# Altium footprint library 15EDGRC-3.81.PcbLib: 11 footprints
Each footprint in its own frame and in the unit in brackets; x right, y up, seen from the top. Pads: shape width x height; smd on the part's side, far side on the other; paste and mask are expansions set on the pad; w line width, h text height; cw(c..) or ccw(c..) is an arc to the next point about the centre after c.
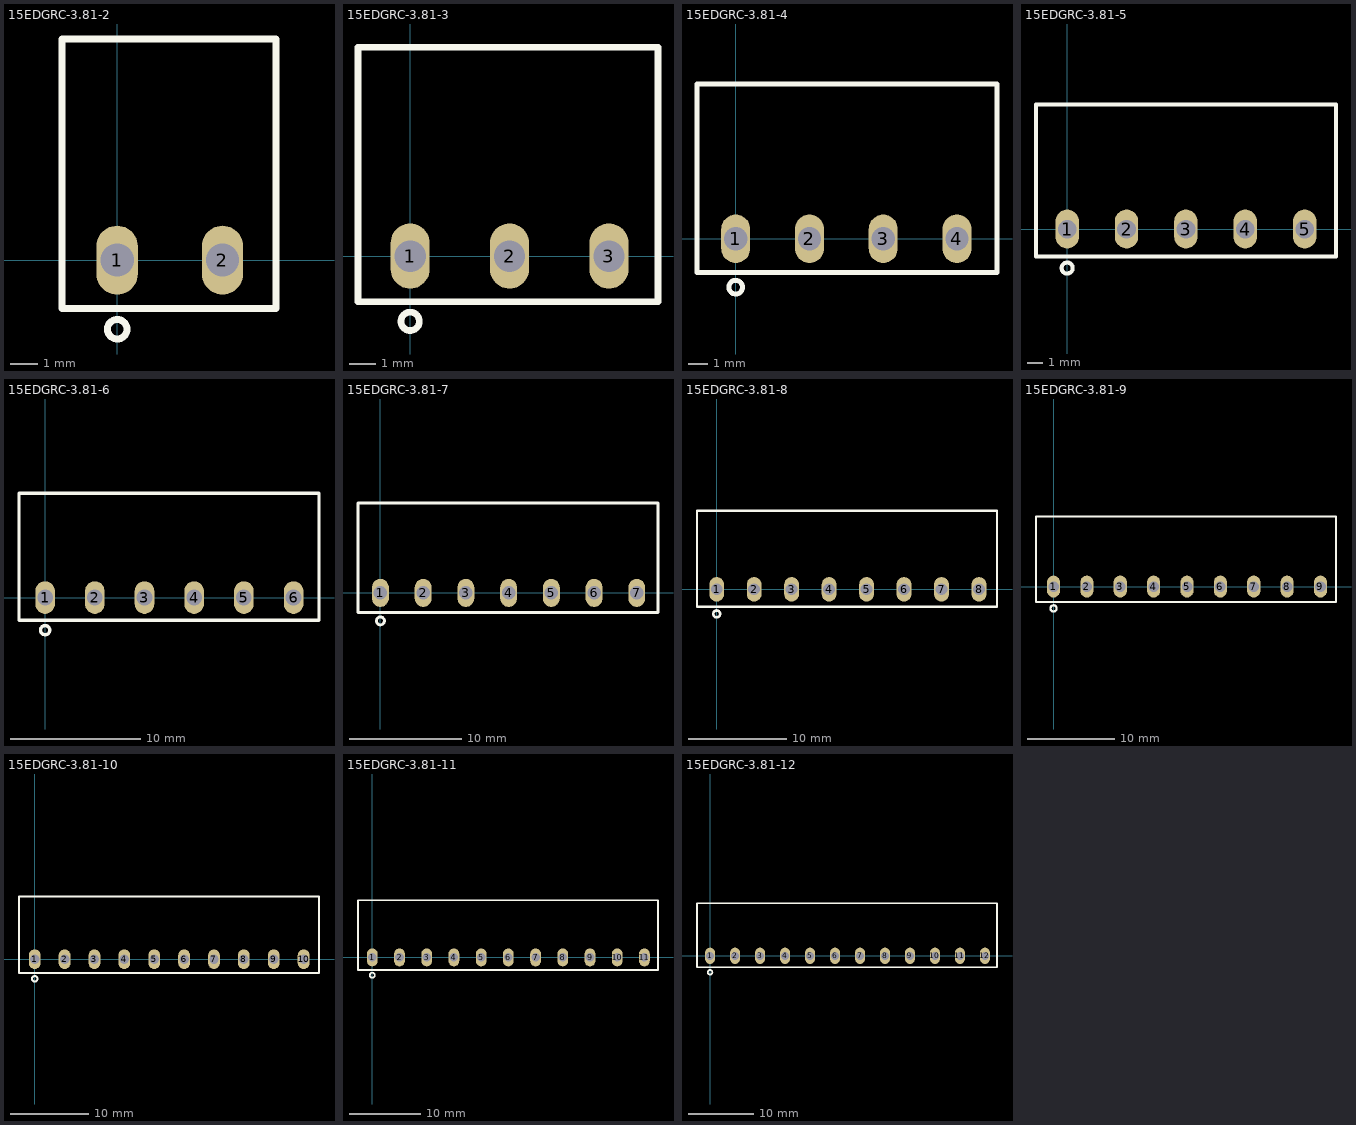
[diagram p0: the footprints below, top view; thin cyan lines are the x and y axes]

## 15EDGRC-3.81-2 [mm]
pads (2):
  oval 1.5x2.5 hole 1.2: 1(0,0) 2(3.81,0)
Top Overlay:
  circle w0.254: c0,-2.5 r0.354
  lines w0.254: -2,-1.75 -2,8 5.75,8 5.75,-1.75 -2,-1.75
3D body "2pin.stp": height 7.3, standoff -3.3, extent -1.91,-1.2 5.71,8

## 15EDGRC-3.81-3 [mm]
pads (3):
  oval 1.5x2.5 hole 1.2: 1(0,0) 2(3.81,0) 3(7.62,0)
Top Overlay:
  circle w0.254: c0,-2.5 r0.354
  lines w0.254: -2,-1.75 9.5,-1.75 9.5,8 -2,8 -2,-1.25 -2,-1.75
3D body "3pin.stp": height 7.3, standoff -3.3, extent -1.865,-1.2 9.565,8

## 15EDGRC-3.81-4 [mm]
pads (4):
  oval 1.5x2.5 hole 1.2: 1(0,0) 2(3.81,0) 3(7.62,0) 4(11.43,0)
Top Overlay:
  circle w0.254: c0,-2.5 r0.354
  lines w0.254: -2,-1.75 -2,8 13.5,8 13.5,-1.75 -2,-1.75
3D body "4pin.stp": height 7.3, standoff -3.3, extent -1.9,-1.2 13.34,8

## 15EDGRC-3.81-5 [mm]
pads (5):
  oval 1.5x2.5 hole 1.2: 1(0,0) 2(3.81,0) 3(7.62,0) 4(11.43,0) 5(15.24,0)
Top Overlay:
  circle w0.254: c0,-2.5 r0.354
  lines w0.254: -2,-1.75 17.25,-1.75 17.25,8 -2,8 -2,-1.25 -2,-1.75
3D body "5pin.stp": height 7.3, standoff -3.3, extent -1.9,-1.2 17.15,8

## 15EDGRC-3.81-6 [mm]
pads (6):
  oval 1.5x2.5 hole 1.2: 1(0,0) 2(3.81,0) 3(7.62,0) 4(11.43,0) 5(15.24,0) 6(19.05,0)
Top Overlay:
  circle w0.254: c0,-2.5 r0.354
  lines w0.254: -2,-1.75 -2,8 21,8 21,-1.75 -2,-1.75
3D body "6pin.stp": height 7.3, standoff -3.3, extent -1.905,-1.2 20.955,8

## 15EDGRC-3.81-7 [mm]
pads (7):
  oval 1.5x2.5 hole 1.2: 1(0,0) 2(3.81,0) 3(7.62,0) 4(11.43,0) 5(15.24,0) 6(19.05,0) 7(22.86,0)
Top Overlay:
  circle w0.254: c0,-2.5 r0.354
  lines w0.254: -2,-1.75 24.75,-1.75 24.75,8 -2,8 -2,-1.75
3D body "7pin.stp": height 7.3, standoff -3.3, extent -1.9,-1.2 24.77,8

## 15EDGRC-3.81-8 [mm]
pads (8):
  oval 1.5x2.5 hole 1.2: 1(0,0) 2(3.81,0) 3(7.62,0) 4(11.43,0) 5(15.24,0) 6(19.05,0) 7(22.86,0) 8(26.67,0)
Top Overlay:
  circle w0.254: c0,-2.5 r0.354
  lines w0.254: -2,-1.75 -2,8 28.5,8 28.5,-1.75 -2,-1.75
3D body "8pin.stp": height 7.3, standoff -3.3, extent -1.895,-1.2 28.585,8

## 15EDGRC-3.81-9 [mm]
pads (9):
  oval 1.5x2.5 hole 1.2: 1(0,0) 2(3.81,0) 3(7.62,0) 4(11.43,0) 5(15.24,0) 6(19.05,0) 7(22.86,0) 8(26.67,0) 9(30.48,0)
Top Overlay:
  circle w0.254: c0,-2.5 r0.354
  lines w0.254: -2,-1.75 32.25,-1.75 32.25,8 -2,8 -2,-1.75
3D body "9pin.stp": height 7.3, standoff -3.3, extent -1.93,-1.2 32.36,8

## 15EDGRC-3.81-10 [mm]
pads (10):
  oval 1.5x2.5 hole 1.2: 1(0,0) 2(3.81,0) 3(7.62,0) 4(11.43,0) 5(15.24,0) 6(19.05,0) 7(22.86,0) 8(26.67,0) 9(30.48,0) 10(34.29,0)
Top Overlay:
  circle w0.254: c0,-2.5 r0.354
  lines w0.254: -2,-1.75 36.25,-1.75 36.25,8 -2,8 -2,-1.5 -2,-1.75
3D body "10pin.stp": height 7.3, standoff -3.3, extent -1.915,-1.2 36.185,8

## 15EDGRC-3.81-11 [mm]
pads (11):
  oval 1.5x2.5 hole 1.2: 1(0,0) 2(3.81,0) 3(7.62,0) 4(11.43,0) 5(15.24,0) 6(19.05,0) 7(22.86,0) 8(26.67,0) 9(30.48,0) 10(34.29,0) 11(38.1,0)
Top Overlay:
  circle w0.254: c0,-2.5 r0.354
  lines w0.254: -2,-1.75 -2,8 40,8 40,-1.75 -2,-1.75
3D body "11pin.stp": height 7.3, standoff -3.3, extent -1.9,-1.2 40.01,8

## 15EDGRC-3.81-12 [mm]
pads (12):
  oval 1.5x2.5 hole 1.2: 1(0,0) 2(3.81,0) 3(7.62,0) 4(11.43,0) 5(15.24,0) 6(19.05,0) 7(22.86,0) 8(26.67,0) 9(30.48,0) 10(34.29,0) 11(38.1,0) 12(41.91,0)
Top Overlay:
  circle w0.254: c0,-2.5 r0.354
  lines w0.254: -2,-1.75 43.75,-1.75 43.75,8 -2,8 -2,-1.75
3D body "12pin.stp": height 7.3, standoff -3.3, extent -1.9,-1.2 43.82,8